# EAGLE library part INA122 (library g29_load_cell)
Instrumentation Amplifier Single Supply, MicroPower
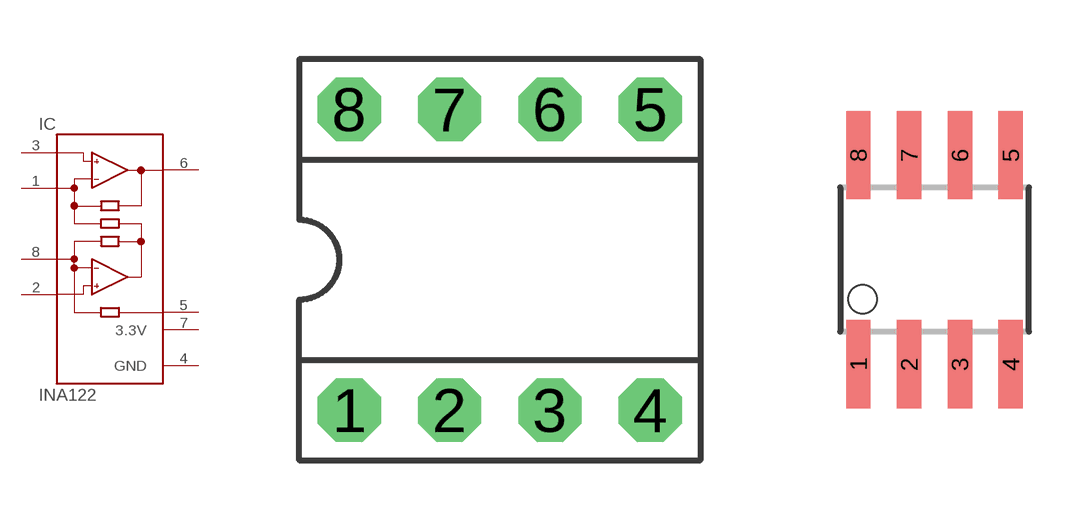
[diagram p0: symbol with the pads of DIL08; footprints DIL08, SO08]

Designator prefix IC

## INA122P (MF: TEXAS INSTRUMENTS; MPN: INA122P; OC_FARNELL: 1459460; OC_NEWARK: 15M0948)  [DIL08]
1  RG  pas
2  -IN  in
3  +IN  in
4  GND  pwr
5  REF  pas
6  OUT  out
7  3.3V  pwr
8  RG  pas

## INA122U (MPN: INA122U; OC_FARNELL: 1212407; OC_NEWARK: 97K1918)  [SO08]
Pads as for DIL08

## Footprint DIL08 (pad centres in mm)
Dual In Line
drill 0.813 pad 1.6 octagon: 1 -3.81,-3.81; 2 -1.27,-3.81; 3 1.27,-3.81; 4 3.81,-3.81; 5 3.81,3.81; 6 1.27,3.81; 7 -1.27,3.81; 8 -3.81,3.81

## Footprint SO08 (pad centres in mm)
Small Outline Package
smd 0.61 x 2.21: 1 -1.905,-2.616; 2 -0.635,-2.616; 3 0.635,-2.616; 4 1.905,-2.616; 5 1.905,2.616; 6 0.635,2.616; 7 -0.635,2.616; 8 -1.905,2.616